# Altium footprint library All.PcbLib: 121 footprints (part 4 of 8)
Each footprint in its own frame and in the unit in brackets; x right, y up, seen from the top. Pads: shape width x height; smd on the part's side, far side on the other; paste and mask are expansions set on the pad; w line width, h text height; cw(c..) or ccw(c..) is an arc to the next point about the centre after c.
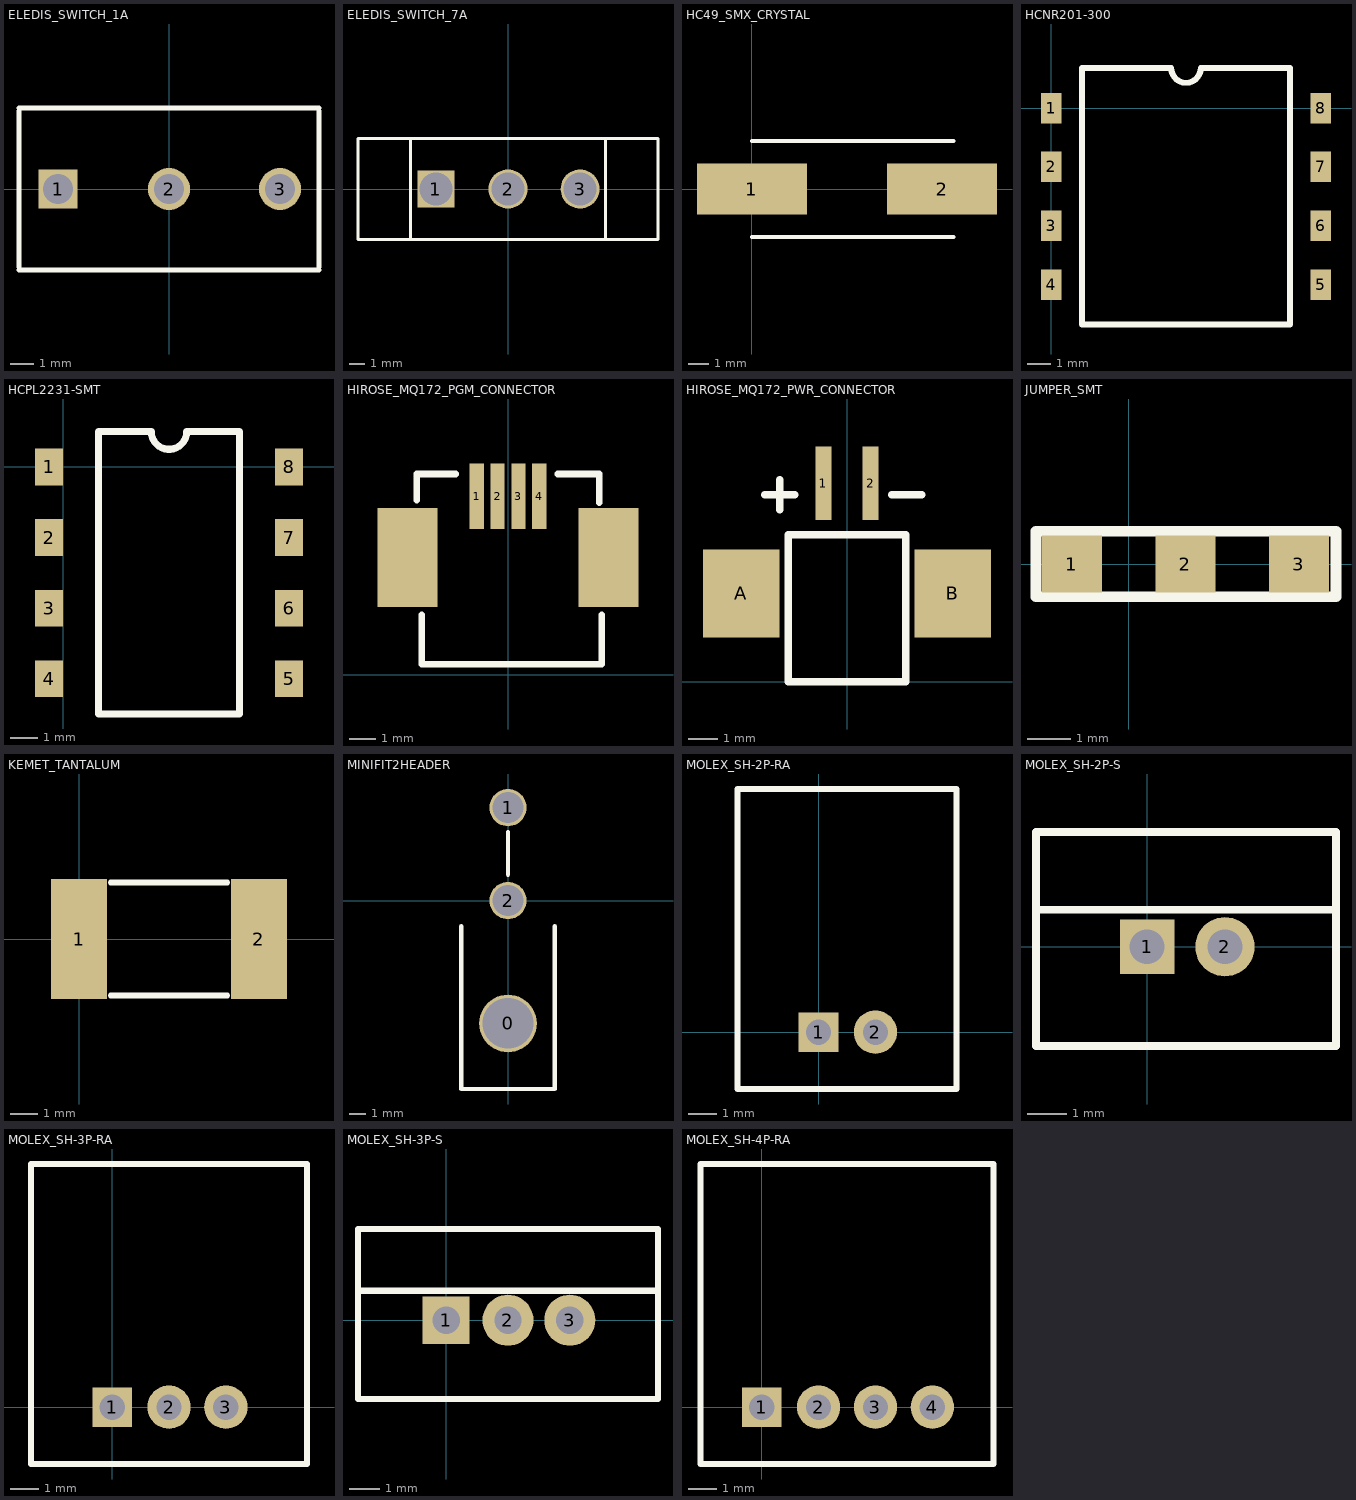
[diagram p3: the footprints below, top view; thin cyan lines are the x and y axes]

## ELEDIS_SWITCH_1A [mil] "ELEDIS Toggle Switch 1A"
pads (3):
  rect 65x65 hole 50: 1(-185,0)
  round 70 hole 50: 2(0,0) 3(185,0)
Top Overlay:
  lines w8: -250,-135 250,-135 ; -250,-130 -250,130 ; -250,135 250,135 ; 250,-130 250,130

## ELEDIS_SWITCH_7A [mil] "Eledis Slide Switch 7A"
pads (3):
  rect 95x95 hole 85: 1(-185,0)
  round 100 hole 85: 2(0,0) 3(185,0)
Top Overlay:
  lines w8: -250,-130 -250,130 ; 250,-130 250,130 ; -385,-130 -385,130 385,130 385,-130 -385,-130

## HC49_SMX_CRYSTAL [mm] "HC49 SMX Crystal farnell 9713808"
pads (2):
  rect 5.5x2.54 smd: 1(0,0) 2(9.525,0)
Top Overlay:
  lines w0.203: 0,-2.4 10.1,-2.4 ; 0,2.4 10.1,2.4

## HCNR201-300 [mil]
pads (8):
  rect 35x52 smd: 1(0,0) 2(0,-100) 3(0,-200) 4(0,-300) 5(458,-300) 6(458,-200) 7(458,-100) 8(458,0)
Top Overlay:
  lines w10: 52.5,-368 405.5,-368 405.5,68 254,68 cw(c229,68) 204,68 52.5,68 52.5,-368

## HCPL2231-SMT [mil]
pads (8):
  rect 40x52 smd: 1(-20,0) 2(-20,-100) 3(-20,-200) 4(-20,-300) 5(320,-300) 6(320,-200) 7(320,-100) 8(320,0)
Top Overlay:
  lines w10: 50,-350 50,50 125,50 ccw(c150,50) 175,50 250,50 250,-350 50,-350

## HIROSE_MQ172_PGM_CONNECTOR [mm]
pads (6):
  rect 0.55x2.5 smd: 1(-1.2,6.85) 2(-0.4,6.85) 3(0.4,6.85) 4(1.2,6.85)
  rect 2.3x3.8 smd: ""(-3.85,4.5) ""(3.85,4.5)
Top Overlay:
  lines w0.254: -3.5,6.7 -3.5,7.7 -2,7.7 ; -3.3,2.3 -3.3,0.4 0.1,0.4 3.6,0.4 3.6,2.3 ; 1.9,7.7 3.5,7.7 3.5,6.6

## HIROSE_MQ172_PWR_CONNECTOR [mm]
pads (4):
  rect 0.55x2.5 smd: 1(-0.8,6.75) 2(0.8,6.75)
  rect 2.6x3 smd: A(-3.6,3) B(3.6,3)
Top Overlay:
  lines w0.254: -2.794,6.35 -1.778,6.35 ; -2.286,5.842 -2.286,6.858 ; 1.524,6.35 2.54,6.35 ; -2,0 -2,5 2,5 2,0 -2,0

## JUMPER_SMT [mil] "3 pin jumper surface mount"
pads (3):
  rect 55x52 smd: 1(-52,0) 2(52,0) 3(156,0)
Top Overlay:
  lines w10: -85,-30 50,-30 60,-30 70,-30 80,-30 190,-30 190,30 50,30 -85,30 -85,-30

## KEMET_TANTALUM [mil] "Kemet Tantalum Capacitor B451"
pads (2):
  rect 80x170 smd: 1(0,0) 2(255,0)
Top Overlay:
  lines w8: 45,-80 210,-80 ; 45,80 210,80

## MICROMATCH_4P [mil] "Micro-Match Header 4P"

## MINIFIT2HEADER [mil]
pads (3):
  round 135 hole 118: 0(0,-287)
  round 87 hole 72: 1(0,217) 2(0,0)
Top Overlay:
  lines w10: -109,-60 -109,-440 109,-440 109,-60 ; 0,60 0,160

## MOLEX_SH-2P-RA [mil] "Molex Sherlock 2 mm 2 pin right angle header"
pads (2):
  rect 55x55 hole 35: 1(0,0)
  round 60 hole 35: 2(78.74,0)
Top Overlay:
  lines w8: -112.2,-78.74 190.95,-78.74 190.95,336.61 -112.2,336.61 -112.2,-78.74

## MOLEX_SH-2P-S [mil] "Molex Sherlock 2 mm 2 pin straight header"
pads (2):
  rect 55x55 hole 35: 1(0,0)
  round 60 hole 35: 2(78.74,0)
Top Overlay:
  lines w8: -112.2,37.4 190.95,37.4 ; -112.2,-100.39 190.95,-100.39 190.95,116.14 -112.2,116.14 -112.2,-100.39

## MOLEX_SH-3P-RA [mil] "Molex Sherlock 2 mm 3 pin right angle header"
pads (3):
  rect 55x55 hole 35: 1(0,0)
  round 60 hole 35: 2(78.74,0) 3(157.48,0)
Top Overlay:
  lines w8: -112.2,-78.74 269.69,-78.74 269.69,336.61 -112.2,336.61 -112.2,-78.74

## MOLEX_SH-3P-S [mil] "Molex Sherlock 2 mm 3 pin straight header"
pads (3):
  rect 60x60 hole 35: 1(0,0)
  round 65 hole 35: 2(78.74,0) 3(157.48,0)
Top Overlay:
  lines w8: -112.2,37.4 269.69,37.4 ; -112.2,-100.39 -112.2,116.14 269.69,116.14 269.69,-100.39 -112.2,-100.39

## MOLEX_SH-4P-RA [mil] "Molex Sherlock 2 mm 4 pin right angle header"
pads (4):
  rect 55x55 hole 35: 1(0,0)
  round 60 hole 35: 2(78.74,0) 3(157.48,0) 4(236.22,0)
Top Overlay:
  lines w8: -84.65,-78.74 320.87,-78.74 320.87,336.61 -84.65,336.61 -84.65,-78.74